# Altium footprint library 3216[1206][A].PcbLib: 2 footprints
Each footprint in its own frame and in the unit in brackets; x right, y up, seen from the top. Pads: shape width x height; smd on the part's side, far side on the other; paste and mask are expansions set on the pad; w line width, h text height; cw(c..) or ccw(c..) is an arc to the next point about the centre after c.
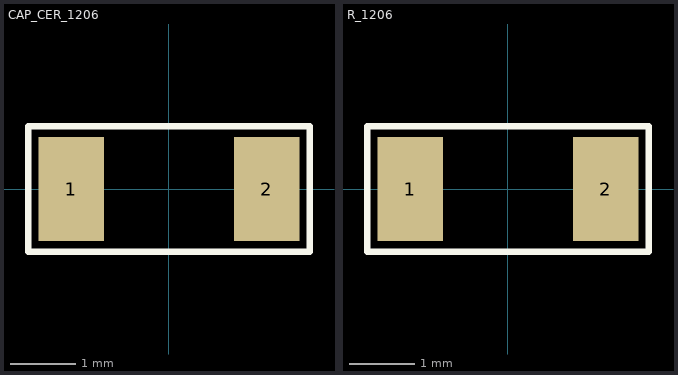
[diagram p0: the footprints below, top view; thin cyan lines are the x and y axes]

## CAP_CER_1206 [mm]
pads (2):
  rect 1x1.6 smd: 1(-1.499,0) 2(1.501,0)
Top Overlay:
  lines w0.1: -2.159,0.965 2.159,0.965 ; -2.159,0.965 -2.159,-0.965 2.159,-0.965 2.159,0.965 ; -2.159,0.965 2.159,0.965
3D body "C3216NP02J103G160AA.stp": height 1.6, standoff 0, extent -1.6,-0.8 1.6,0.8

## R_1206 [mm]
pads (2):
  rect 1x1.6 smd: 1(-1.499,0) 2(1.501,0)
Top Overlay:
  lines w0.1: -2.159,0.965 2.159,0.965 ; -2.159,0.965 -2.159,-0.965 2.159,-0.965 2.159,0.965 ; -2.159,0.965 2.159,0.965
3D body "User Library-CR3216-1206.step": height 0.6, standoff 0, extent -1.6,-0.8 1.6,0.8